# Altium integrated library G5V-1-DC5.IntLib: 1 symbol
Pins are listed as number, name and electrical type; pins without a type are passive.

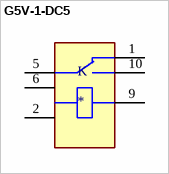
[diagram p0: symbol G5V-1-DC5]

## G5V-1-DC5
designator K
General Purpose Relay SPDT _1 Form C_ Through Hole; MF: Omron Electronics; MP: G5V-1-DC5; Package: None; Value: *; Price: None; Availability: Unavailable; SnapEDA_Link: https://www.snapeda.com/parts/G5V-1-DC5/Omron%20Electronics%20Inc-EMC%20Div/view-part/125140/?ref=snap
footprint RELAY_G5V-1-DC5
pins: 1 NC, 2 C1, 5 COM, 6 COM, 9 C2, 10 NO